# Altium footprint library Connector_PinHeader_1.00mm.PcbLib: 278 footprints (part 1 of 18)
Each footprint in its own frame and in the unit in brackets; x right, y up, seen from the top. Pads: shape width x height; smd on the part's side, far side on the other; paste and mask are expansions set on the pad; w line width, h text height; cw(c..) or ccw(c..) is an arc to the next point about the centre after c.
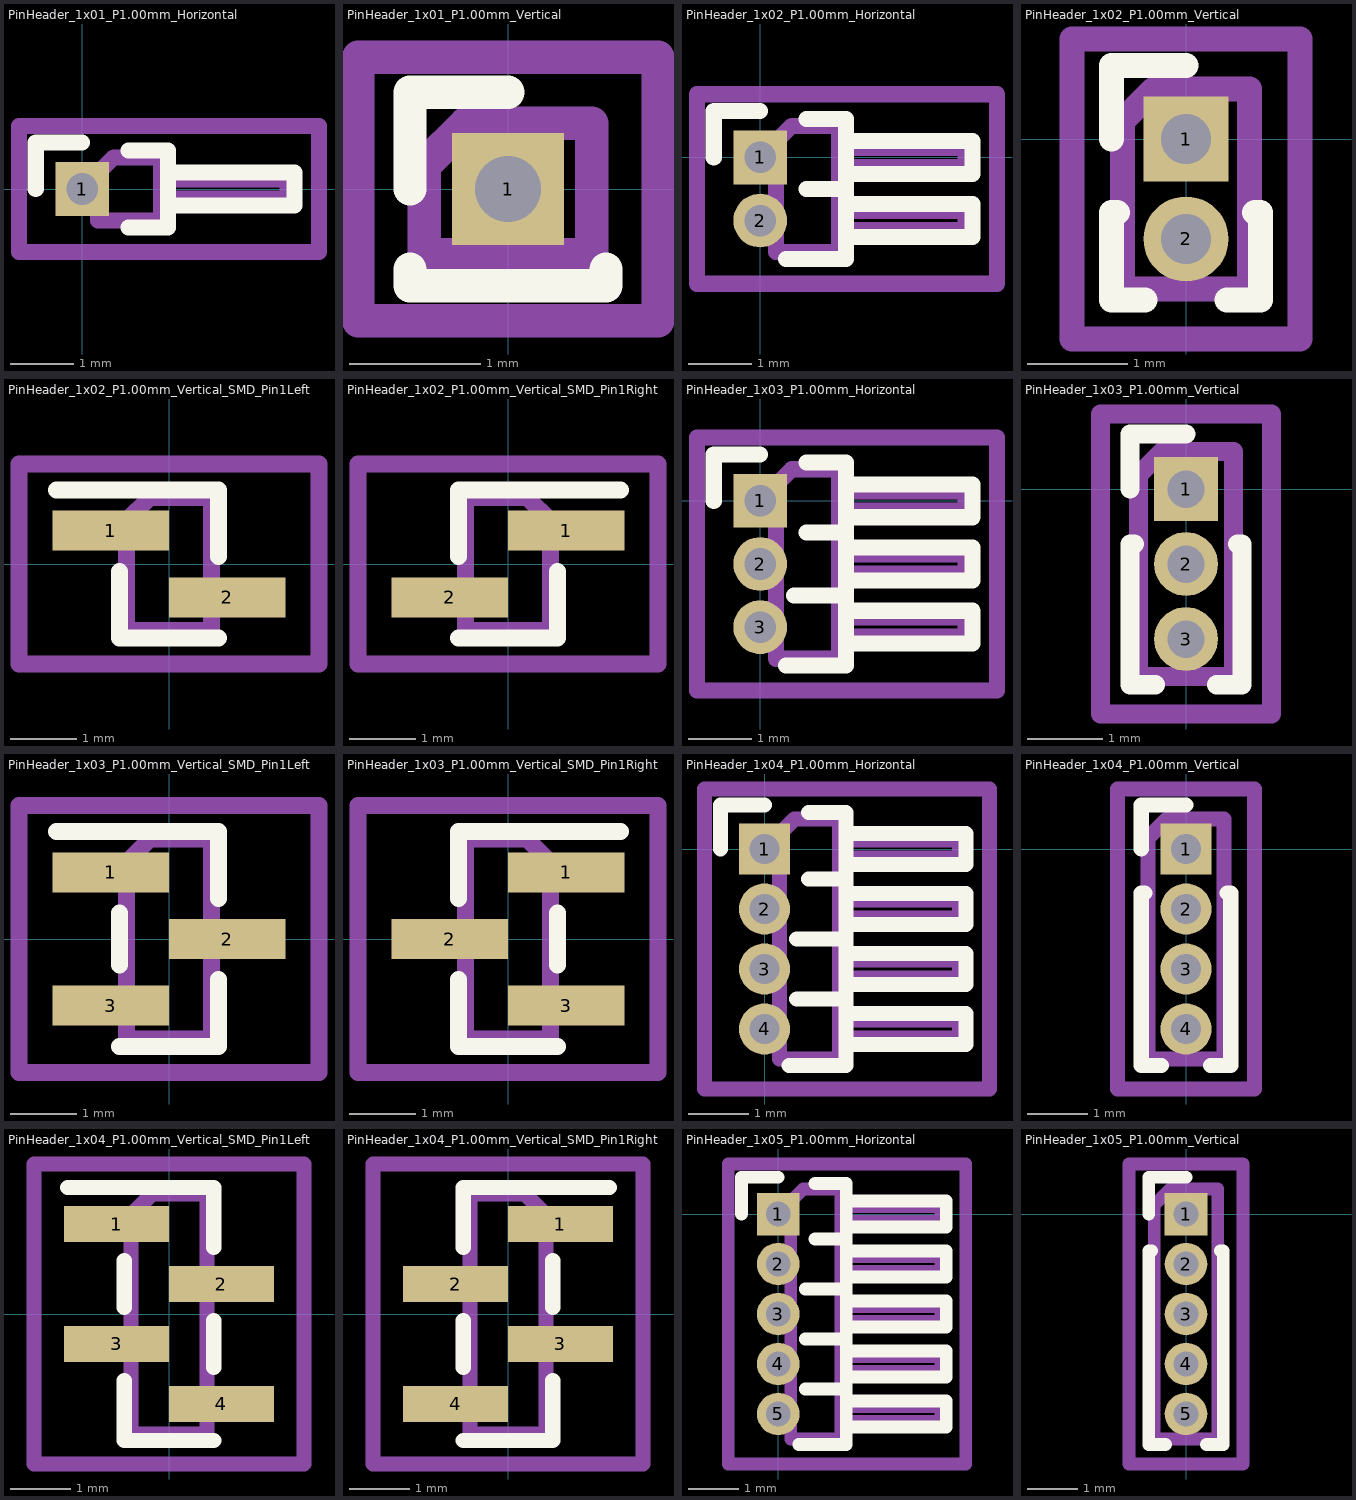
[diagram p0: the footprints below, top view; thin cyan lines are the x and y axes]

## PinHeader_1x01_P1.00mm_Horizontal [mm]
pads (1):
  rect 0.85x0.85 hole 0.5: 1(0,0)
F.SilkS:
  lines w0.254: -0.735,0 -0.735,0.735 0,0.735 ; 0.735,-0.61 1.36,-0.61 1.36,0.61 0.735,0.61 ; 1.36,-0.26 1.36,0.26 3.36,0.26 3.36,-0.26 1.36,-0.26
Top Assembly:
  lines w0.254: 0.25,-0.15 -0.15,-0.15 -0.15,0.15 0.25,0.15 ; 1.25,-0.15 3.25,-0.15 3.25,0.15 1.25,0.15 ; 0.25,-0.5 0.25,0.25 0.5,0.5 1.25,0.5 1.25,-0.5 0.25,-0.5
  text "'.Designator'" at 1.254,-2.428 h0.6
Top Courtyard:
  lines w0.254: -1,-1 -1,1 3.75,1 3.75,-1 -1,-1
Top Designator:
  text ".Designator" at -6.243,-0.598 h1.52

## PinHeader_1x01_P1.00mm_Vertical [mm]
pads (1):
  rect 0.85x0.85 hole 0.5: 1(0,0)
F.SilkS:
  lines w0.254: -0.745,-0.61 -0.745,-0.735 ; -0.745,0 -0.745,0.735 0,0.735 ; -0.686,-0.735 -0.745,-0.735 ; 0.686,-0.735 0.745,-0.735 ; 0.745,-0.61 0.745,-0.735 ; -0.745,-0.735 0.745,-0.735
Top Assembly:
  lines w0.254: -0.635,-0.5 0.635,-0.5 0.635,0.5 -0.318,0.5 -0.635,0.182 -0.635,-0.5
  text "'.Designator'" at 0.639,-3.076 h0.76
Top Courtyard:
  lines w0.254: -1.14,-1 1.14,-1 1.14,1 -1.14,1 -1.14,-1
Top Designator:
  text ".Designator" at -7.618,-0.622 h1.52

## PinHeader_1x02_P1.00mm_Horizontal [mm]
pads (2):
  rect 0.85x0.85 hole 0.5: 1(0,0)
  round 0.85 hole 0.5: 2(0,-1)
F.SilkS:
  lines w0.254: -0.735,0 -0.735,0.735 0,0.735 ; 0.41,-1.61 1.36,-1.61 1.36,0.61 0.735,0.61 ; 0.735,-0.5 1.36,-0.5 ; 1.36,-1.26 3.36,-1.26 3.36,-0.74 1.36,-0.74 ; 1.36,-0.26 3.36,-0.26 3.36,0.26 1.36,0.26 1.36,-0.26
Top Assembly:
  lines w0.254: 0.25,-1.15 -0.15,-1.15 -0.15,-0.85 0.25,-0.85 ; 0.25,-0.15 -0.15,-0.15 -0.15,0.15 0.25,0.15 ; 1.25,-1.15 3.25,-1.15 3.25,-0.85 1.25,-0.85 ; 1.25,-0.15 3.25,-0.15 3.25,0.15 1.25,0.15 ; 0.25,-1.5 1.25,-1.5 1.25,0.5 0.5,0.5 0.25,0.25 0.25,-1.5
  text "'.Designator'" at 1.254,-2.928 h0.6
Top Courtyard:
  lines w0.254: -1,-2 3.75,-2 3.75,1 -1,1 -1,-2
Top Designator:
  text ".Designator" at -6.243,-1.098 h1.52

## PinHeader_1x02_P1.00mm_Vertical [mm]
pads (2):
  rect 0.85x0.85 hole 0.5: 1(0,0)
  round 0.85 hole 0.5: 2(0,-1)
F.SilkS:
  lines w0.254: -0.745,0 -0.745,0.735 0,0.735 ; -0.686,-0.735 -0.745,-0.735 -0.745,-1.61 -0.41,-1.61 ; 0.41,-1.61 0.745,-1.61 0.745,-0.735 0.686,-0.735
Top Assembly:
  lines w0.254: -0.635,-1.5 0.635,-1.5 0.635,0.5 -0.318,0.5 -0.635,0.182 -0.635,-1.5
  text "'.Designator'" at 0.639,-3.576 h0.76
Top Courtyard:
  lines w0.254: -1.14,-2 1.14,-2 1.14,1 -1.14,1 -1.14,-2
Top Designator:
  text ".Designator" at -7.618,-1.122 h1.52

## PinHeader_1x02_P1.00mm_Vertical_SMD_Pin1Left [mm]
pads (2):
  rect 1.75x0.6 smd: 1(-0.875,0.5) 2(0.875,-0.5)
F.SilkS:
  lines w0.254: -1.69,1.11 -0.745,1.11 0.745,1.11 0.745,0.11 ; -0.745,-0.11 -0.745,-1.11 0.745,-1.11
Top Assembly:
  lines w0.254: -0.635,0.35 -1.25,0.35 -1.25,0.65 -0.635,0.65 ; 0.635,-0.65 1.25,-0.65 1.25,-0.35 0.635,-0.35 ; -0.635,0.65 -0.635,-1 0.635,-1 0.635,1 -0.285,1 -0.635,0.65
  text "'.Designator'" at 0.84,-4.047 h1
Top Courtyard:
  lines w0.254: -2.25,-1.5 2.25,-1.5 2.25,1.5 -2.25,1.5 -2.25,-1.5
Top Designator:
  text ".Designator" at -7.618,-0.658 h1.52

## PinHeader_1x02_P1.00mm_Vertical_SMD_Pin1Right [mm]
pads (2):
  rect 1.75x0.6 smd: 1(0.875,0.5) 2(-0.875,-0.5)
F.SilkS:
  lines w0.254: -0.745,-1.11 0.745,-1.11 0.745,-0.11 ; -0.745,0.89 -0.745,0.11 -0.745,1.11 0.745,1.11 1.69,1.11
Top Assembly:
  lines w0.254: -0.635,-0.65 -1.25,-0.65 -1.25,-0.35 -0.635,-0.35 ; 0.635,0.35 1.25,0.35 1.25,0.65 0.635,0.65 ; 0.635,0.65 0.635,-1 -0.635,-1 -0.635,1 0.285,1 0.635,0.65
  text "'.Designator'" at 0.84,-4.047 h1
Top Courtyard:
  lines w0.254: -2.25,-1.5 2.25,-1.5 2.25,1.5 -2.25,1.5 -2.25,-1.5
Top Designator:
  text ".Designator" at -7.618,-0.658 h1.52

## PinHeader_1x03_P1.00mm_Horizontal [mm]
pads (3):
  rect 0.85x0.85 hole 0.5: 1(0,0)
  round 0.85 hole 0.5: 2(0,-1) 3(0,-2)
F.SilkS:
  lines w0.254: -0.735,0 -0.735,0.735 0,0.735 ; 0.41,-2.61 1.36,-2.61 1.36,0.61 0.735,0.61 ; 0.539,-1.5 1.36,-1.5 ; 0.735,-0.5 1.36,-0.5 ; 1.36,-2.26 3.36,-2.26 3.36,-1.74 1.36,-1.74 ; 1.36,-1.26 3.36,-1.26 3.36,-0.74 1.36,-0.74 ; 1.36,-0.26 3.36,-0.26 3.36,0.26 1.36,0.26 1.36,-0.26
Top Assembly:
  lines w0.254: 0.25,-2.15 -0.15,-2.15 -0.15,-1.85 0.25,-1.85 ; 0.25,-1.15 -0.15,-1.15 -0.15,-0.85 0.25,-0.85 ; 0.25,-0.15 -0.15,-0.15 -0.15,0.15 0.25,0.15 ; 1.25,-2.15 3.25,-2.15 3.25,-1.85 1.25,-1.85 ; 1.25,-1.15 3.25,-1.15 3.25,-0.85 1.25,-0.85 ; 1.25,-0.15 3.25,-0.15 3.25,0.15 1.25,0.15 ; 0.25,-2.5 1.25,-2.5 1.25,0.5 0.5,0.5 0.25,0.25 0.25,-2.5
  text "'.Designator'" at 1.254,-3.428 h0.6
Top Courtyard:
  lines w0.254: -1,-3 3.75,-3 3.75,1 -1,1 -1,-3
Top Designator:
  text ".Designator" at -6.243,-1.598 h1.52

## PinHeader_1x03_P1.00mm_Vertical [mm]
pads (3):
  rect 0.85x0.85 hole 0.5: 1(0,0)
  round 0.85 hole 0.5: 2(0,-1) 3(0,-2)
F.SilkS:
  lines w0.254: -0.745,0 -0.745,0.735 0,0.735 ; -0.686,-0.735 -0.745,-0.735 -0.745,-2.61 -0.41,-2.61 ; 0.41,-2.61 0.745,-2.61 0.745,-0.735 0.686,-0.735
Top Assembly:
  lines w0.254: -0.635,-2.5 0.635,-2.5 0.635,0.5 -0.318,0.5 -0.635,0.182 -0.635,-2.5
  text "'.Designator'" at 0.639,-4.076 h0.76
Top Courtyard:
  lines w0.254: -1.14,-3 1.14,-3 1.14,1 -1.14,1 -1.14,-3
Top Designator:
  text ".Designator" at -7.618,-1.622 h1.52

## PinHeader_1x03_P1.00mm_Vertical_SMD_Pin1Left [mm]
pads (3):
  rect 1.75x0.6 smd: 1(-0.875,1) 2(0.875,0) 3(-0.875,-1)
F.SilkS:
  lines w0.254: -1.69,1.61 -0.745,1.61 0.745,1.61 0.745,0.61 ; -0.745,-1.61 0.745,-1.61 0.745,-0.61 ; -0.745,-0.39 -0.745,0.39
Top Assembly:
  lines w0.254: -0.635,-1.15 -1.25,-1.15 -1.25,-0.85 -0.635,-0.85 ; -0.635,0.85 -1.25,0.85 -1.25,1.15 -0.635,1.15 ; 0.635,-0.15 1.25,-0.15 1.25,0.15 0.635,0.15 ; -0.635,1.15 -0.635,-1.5 0.635,-1.5 0.635,1.5 -0.285,1.5 -0.635,1.15
  text "'.Designator'" at 0.84,-4.047 h1
Top Courtyard:
  lines w0.254: -2.25,-2 2.25,-2 2.25,2 -2.25,2 -2.25,-2
Top Designator:
  text ".Designator" at -7.618,-0.658 h1.52

## PinHeader_1x03_P1.00mm_Vertical_SMD_Pin1Right [mm]
pads (3):
  rect 1.75x0.6 smd: 1(0.875,1) 2(-0.875,0) 3(0.875,-1)
F.SilkS:
  lines w0.254: -0.745,-0.61 -0.745,-1.61 0.745,-1.61 ; -0.745,1.39 -0.745,0.61 -0.745,1.61 0.745,1.61 1.69,1.61 ; 0.745,-0.39 0.745,0.39
Top Assembly:
  lines w0.254: -0.635,-0.15 -1.25,-0.15 -1.25,0.15 -0.635,0.15 ; 0.635,-1.15 1.25,-1.15 1.25,-0.85 0.635,-0.85 ; 0.635,0.85 1.25,0.85 1.25,1.15 0.635,1.15 ; 0.635,1.15 0.635,-1.5 -0.635,-1.5 -0.635,1.5 0.285,1.5 0.635,1.15
  text "'.Designator'" at 0.84,-4.047 h1
Top Courtyard:
  lines w0.254: -2.25,-2 2.25,-2 2.25,2 -2.25,2 -2.25,-2
Top Designator:
  text ".Designator" at -7.618,-0.658 h1.52

## PinHeader_1x04_P1.00mm_Horizontal [mm]
pads (4):
  rect 0.85x0.85 hole 0.5: 1(0,0)
  round 0.85 hole 0.5: 2(0,-1) 3(0,-2) 4(0,-3)
F.SilkS:
  lines w0.254: -0.735,0 -0.735,0.735 0,0.735 ; 0.41,-3.61 1.36,-3.61 1.36,0.61 0.735,0.61 ; 0.539,-2.5 1.36,-2.5 ; 0.539,-1.5 1.36,-1.5 ; 0.735,-0.5 1.36,-0.5 ; 1.36,-3.26 3.36,-3.26 3.36,-2.74 1.36,-2.74 ; 1.36,-2.26 3.36,-2.26 3.36,-1.74 1.36,-1.74 ; 1.36,-1.26 3.36,-1.26 3.36,-0.74 1.36,-0.74 ; 1.36,-0.26 3.36,-0.26 3.36,0.26 1.36,0.26 1.36,-0.26
Top Assembly:
  lines w0.254: 0.25,-3.15 -0.15,-3.15 -0.15,-2.85 0.25,-2.85 ; 0.25,-2.15 -0.15,-2.15 -0.15,-1.85 0.25,-1.85 ; 0.25,-1.15 -0.15,-1.15 -0.15,-0.85 0.25,-0.85 ; 0.25,-0.15 -0.15,-0.15 -0.15,0.15 0.25,0.15 ; 1.25,-3.15 3.25,-3.15 3.25,-2.85 1.25,-2.85 ; 1.25,-2.15 3.25,-2.15 3.25,-1.85 1.25,-1.85 ; 1.25,-1.15 3.25,-1.15 3.25,-0.85 1.25,-0.85 ; 1.25,-0.15 3.25,-0.15 3.25,0.15 1.25,0.15 ; 0.25,-3.5 1.25,-3.5 1.25,0.5 0.5,0.5 0.25,0.25 0.25,-3.5
  text "'.Designator'" at 1.254,-3.928 h0.6
Top Courtyard:
  lines w0.254: -1,-4 3.75,-4 3.75,1 -1,1 -1,-4
Top Designator:
  text ".Designator" at -6.243,-2.008 h1.52

## PinHeader_1x04_P1.00mm_Vertical [mm]
pads (4):
  rect 0.85x0.85 hole 0.5: 1(0,0)
  round 0.85 hole 0.5: 2(0,-1) 3(0,-2) 4(0,-3)
F.SilkS:
  lines w0.254: -0.745,0 -0.745,0.735 0,0.735 ; -0.686,-0.735 -0.745,-0.735 -0.745,-3.61 -0.41,-3.61 ; 0.41,-3.61 0.745,-3.61 0.745,-0.735 0.686,-0.735
Top Assembly:
  lines w0.254: -0.635,-3.5 0.635,-3.5 0.635,0.5 -0.318,0.5 -0.635,0.182 -0.635,-3.5
  text "'.Designator'" at 0.639,-4.576 h0.76
Top Courtyard:
  lines w0.254: -1.14,-4 1.14,-4 1.14,1 -1.14,1 -1.14,-4
Top Designator:
  text ".Designator" at -7.618,-2.122 h1.52

## PinHeader_1x04_P1.00mm_Vertical_SMD_Pin1Left [mm]
pads (4):
  rect 1.75x0.6 smd: 1(-0.875,1.5) 2(0.875,0.5) 3(-0.875,-0.5) 4(0.875,-1.5)
F.SilkS:
  lines w0.254: -1.69,2.11 -0.745,2.11 0.745,2.11 0.745,1.11 ; -0.745,-1.11 -0.745,-2.11 0.745,-2.11 ; -0.745,0.11 -0.745,0.89 ; 0.745,-0.89 0.745,-0.11
Top Assembly:
  lines w0.254: -0.635,-0.65 -1.25,-0.65 -1.25,-0.35 -0.635,-0.35 ; -0.635,1.35 -1.25,1.35 -1.25,1.65 -0.635,1.65 ; 0.635,-1.65 1.25,-1.65 1.25,-1.35 0.635,-1.35 ; 0.635,0.35 1.25,0.35 1.25,0.65 0.635,0.65 ; -0.635,1.65 -0.635,-2 0.635,-2 0.635,2 -0.285,2 -0.635,1.65
  text "'.Designator'" at 0.84,-4.047 h1
Top Courtyard:
  lines w0.254: -2.25,-2.5 2.25,-2.5 2.25,2.5 -2.25,2.5 -2.25,-2.5
Top Designator:
  text ".Designator" at -7.618,-0.658 h1.52

## PinHeader_1x04_P1.00mm_Vertical_SMD_Pin1Right [mm]
pads (4):
  rect 1.75x0.6 smd: 1(0.875,1.5) 2(-0.875,0.5) 3(0.875,-0.5) 4(-0.875,-1.5)
F.SilkS:
  lines w0.254: -0.745,-2.11 0.745,-2.11 0.745,-1.11 ; -0.745,-0.89 -0.745,-0.11 ; -0.745,1.89 -0.745,1.11 -0.745,2.11 0.745,2.11 1.69,2.11 ; 0.745,0.11 0.745,0.89
Top Assembly:
  lines w0.254: -0.635,-1.65 -1.25,-1.65 -1.25,-1.35 -0.635,-1.35 ; -0.635,0.35 -1.25,0.35 -1.25,0.65 -0.635,0.65 ; 0.635,-0.65 1.25,-0.65 1.25,-0.35 0.635,-0.35 ; 0.635,1.35 1.25,1.35 1.25,1.65 0.635,1.65 ; 0.635,1.65 0.635,-2 -0.635,-2 -0.635,2 0.285,2 0.635,1.65
  text "'.Designator'" at 0.84,-4.047 h1
Top Courtyard:
  lines w0.254: -2.25,-2.5 2.25,-2.5 2.25,2.5 -2.25,2.5 -2.25,-2.5
Top Designator:
  text ".Designator" at -7.618,-0.658 h1.52

## PinHeader_1x05_P1.00mm_Horizontal [mm]
pads (5):
  rect 0.85x0.85 hole 0.5: 1(0,0)
  round 0.85 hole 0.5: 2(0,-1) 3(0,-2) 4(0,-3) 5(0,-4)
F.SilkS:
  lines w0.254: -0.735,0 -0.735,0.735 0,0.735 ; 0.41,-4.61 1.36,-4.61 1.36,0.61 0.735,0.61 ; 0.539,-3.5 1.36,-3.5 ; 0.539,-2.5 1.36,-2.5 ; 0.539,-1.5 1.36,-1.5 ; 0.735,-0.5 1.36,-0.5 ; 1.36,-4.26 3.36,-4.26 3.36,-3.74 1.36,-3.74 ; 1.36,-3.26 3.36,-3.26 3.36,-2.74 1.36,-2.74 ; 1.36,-2.26 3.36,-2.26 3.36,-1.74 1.36,-1.74 ; 1.36,-1.26 3.36,-1.26 3.36,-0.74 1.36,-0.74 ; 1.36,-0.26 3.36,-0.26 3.36,0.26 1.36,0.26 1.36,-0.26
Top Assembly:
  lines w0.254: 0.25,-4.15 -0.15,-4.15 -0.15,-3.85 0.25,-3.85 ; 0.25,-3.15 -0.15,-3.15 -0.15,-2.85 0.25,-2.85 ; 0.25,-2.15 -0.15,-2.15 -0.15,-1.85 0.25,-1.85 ; 0.25,-1.15 -0.15,-1.15 -0.15,-0.85 0.25,-0.85 ; 0.25,-0.15 -0.15,-0.15 -0.15,0.15 0.25,0.15 ; 1.25,-4.15 3.25,-4.15 3.25,-3.85 1.25,-3.85 ; 1.25,-3.15 3.25,-3.15 3.25,-2.85 1.25,-2.85 ; 1.25,-2.15 3.25,-2.15 3.25,-1.85 1.25,-1.85 ; 1.25,-1.15 3.25,-1.15 3.25,-0.85 1.25,-0.85 ; 1.25,-0.15 3.25,-0.15 3.25,0.15 1.25,0.15 ; 0.25,-4.5 1.25,-4.5 1.25,0.5 0.5,0.5 0.25,0.25 0.25,-4.5
  text "'.Designator'" at 1.254,-4.428 h0.6
Top Courtyard:
  lines w0.254: -1,-5 3.75,-5 3.75,1 -1,1 -1,-5
Top Designator:
  text ".Designator" at -6.243,-2.508 h1.52

## PinHeader_1x05_P1.00mm_Vertical [mm]
pads (5):
  rect 0.85x0.85 hole 0.5: 1(0,0)
  round 0.85 hole 0.5: 2(0,-1) 3(0,-2) 4(0,-3) 5(0,-4)
F.SilkS:
  lines w0.254: -0.745,0 -0.745,0.735 0,0.735 ; -0.686,-0.735 -0.745,-0.735 -0.745,-4.61 -0.41,-4.61 ; 0.41,-4.61 0.745,-4.61 0.745,-0.735 0.686,-0.735
Top Assembly:
  lines w0.254: -0.635,-4.5 0.635,-4.5 0.635,0.5 -0.318,0.5 -0.635,0.182 -0.635,-4.5
  text "'.Designator'" at 0.639,-5.076 h0.76
Top Courtyard:
  lines w0.254: -1.14,-5 1.14,-5 1.14,1 -1.14,1 -1.14,-5
Top Designator:
  text ".Designator" at -7.618,-2.539 h1.52